# EAGLE library part SI5902DC (library transistor-fet-my)
Dual N-Channel 30-V (D-S) MOSFET Source: http://www.vishay.com/docs/71053/71053.pdf
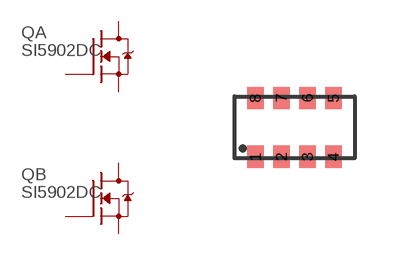
[diagram p0: symbol with the pads of 1206-8CHIP-FET; footprint 1206-8CHIP-FET]

Designator prefix Q; gates A=N-MOSFET-GDS-D B=N-MOSFET-GDS-D

## SI5902DC  [1206-8CHIP-FET]
1  A:S  pas
2  A:G  pas
3  B:S  pas
4  B:G  pas
5  B:D  pas
6  B:D  pas
7  A:D  pas
8  A:D  pas

## Footprint 1206-8CHIP-FET (pad centres in mm)
1206-8 ChipFET Source: http://www.vishay.com/docs/72593/72593.pdf http://www.vishay.com/docs/71151/71151.pdf
smd 0.406 x 0.56: 1 -0.975,-0.737; 2 -0.325,-0.737; 3 0.325,-0.737; 4 0.975,-0.737; 5 0.975,0.737; 6 0.325,0.737; 7 -0.325,0.737; 8 -0.975,0.737